# Altium footprint library SOP50P310X90-8N.PcbLib: 1 footprints
Each footprint in its own frame and in the unit in brackets; x right, y up, seen from the top. Pads: shape width x height; smd on the part's side, far side on the other; paste and mask are expansions set on the pad; w line width, h text height; cw(c..) or ccw(c..) is an arc to the next point about the centre after c.
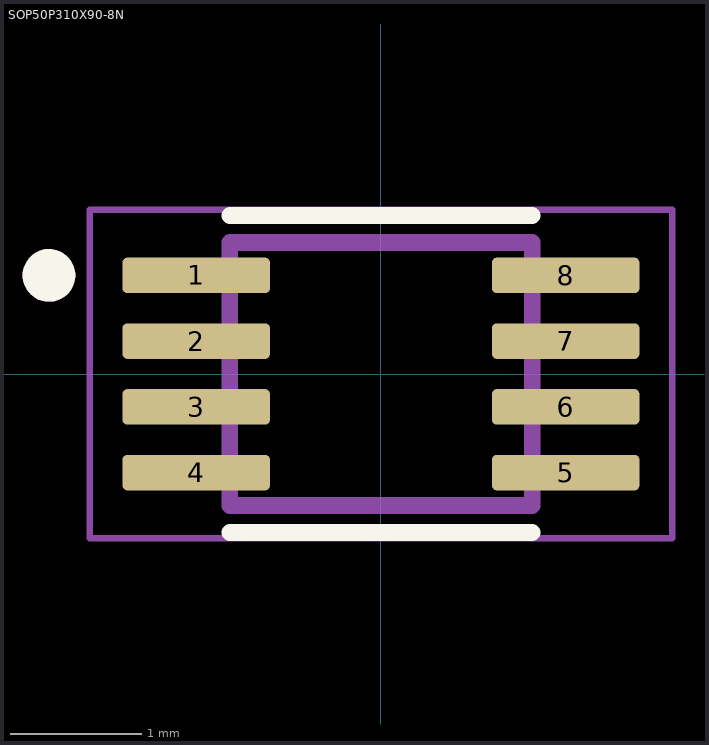
[diagram p0: the footprint, top view; thin cyan lines are the x and y axes]

## SOP50P310X90-8N [mm]
pads (8):
  rrect25% 1.12x0.27 smd: 1(-1.405,0.75) 2(-1.405,0.25) 3(-1.405,-0.25) 4(-1.405,-0.75) 5(1.405,-0.75) 6(1.405,-0.25) 7(1.405,0.25) 8(1.405,0.75)
Top Overlay:
  circle w0.2: c-2.525,0.75 r0.1
  lines w0.127: -1.15,-1.205 1.15,-1.205 ; -1.15,1.205 1.15,1.205
Mechanical 13:
  circle w0.2: c-2.525,0.75 r0.1
  lines w0.127: -1.15,-1 -1.15,1 1.15,1 1.15,-1 -1.15,-1
Mechanical 15:
  lines w0.05: -2.215,-1.25 -2.215,1.25 2.215,1.25 2.215,-1.25 -2.215,-1.25
3D body "step_temp.STEP": height 0.9, standoff 0, extent -1.55,-1 1.55,1